# EAGLE library part DAC6571 (library m-pad)
Ti's DAC6571 10-BIT DIGITAL-TO-ANALOG CONVERTER Features: Micropower Operation: 125 µA @ 3 V Fast Update Rate: 188 kSPS Power-On Reset to Zero +2.7 V to +5.5 V Power Supply Specified Monotonic by Design I2C? Interface up to 3.4 Mbps On-Chip Output Buffer Amplifier, Rail-to-Rail Operation Double-Buffered Input Register Address Support for up to Two DAC6571s Small 6 Lead SOT 23 Package Operation From -40°C to 105°C Application: Process Control Data Acquistion Systems Closed-Loop Servo Control PC Peripherals Portable Instrumentation Description: The DAC6571 is a low-power, single channel, 10-Bit buffered voltage output DAC. Its on-chip precision output amplifier allows rail-to-rail output swing to be achieved. The DAC6571 utilizes an I2C compatible two wire serial interface that operates at clock rates up to 3.4 Mbps with address support of up to two DAC6571s on the same data bus. The output voltage range of the DAC is 0 V to VDD. The DAC6571 incorporates a power-on-reset circuit that ensures that the DAC output powers up at zero volts and remains there until a valid write to the device takes place. The DAC6571 contains a power-down feature, accessed via the internal control register, that reduces the current consumption of the device to 50 nA at 5 V. The low power consumption of this part in normal operation makes it ideally suited for portable battery operated equipment. The power consumption is less than 0.7 mW at VDD = 5 V reducing to 1 µW in power-down mode. DAC7571/6571/5571 are 12/10/8 bit single channel I2C DACs from the same family. DAC7574/6574/5574 and DAC7573/6573/5573 are 12/10/8 bit quad channel I2C DACs. Also see DAC8571/8574 for single/quad channel 16-bit I2C DACs. Please send any comments to: messi@users.sourceforge.net
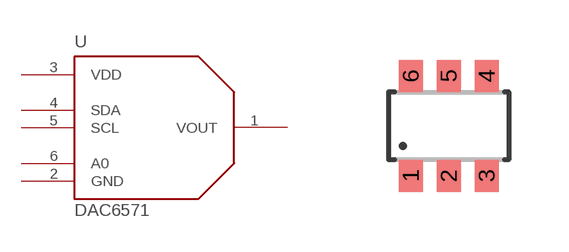
[diagram p41: symbol with the pads of SOT23-6; footprint SOT23-6]

Designator prefix U

## DAC6571  [SOT23-6]
1  VOUT  pas
2  GND  pwr
3  VDD  pwr
4  SDA
5  SCL
6  A0  in

## Footprint SOT23-6 (pad centres in mm)
Small Outline Transistor 6 lead
smd 0.6 x 0.8: 1 -0.95,-1.25; 2 0,-1.25; 3 0.95,-1.25; 4 0.95,1.25; 5 0,1.25; 6 -0.95,1.25